# Altium footprint library Samtec.PcbLib: 5 footprints
Each footprint in its own frame and in the unit in brackets; x right, y up, seen from the top. Pads: shape width x height; smd on the part's side, far side on the other; paste and mask are expansions set on the pad; w line width, h text height; cw(c..) or ccw(c..) is an arc to the next point about the centre after c.
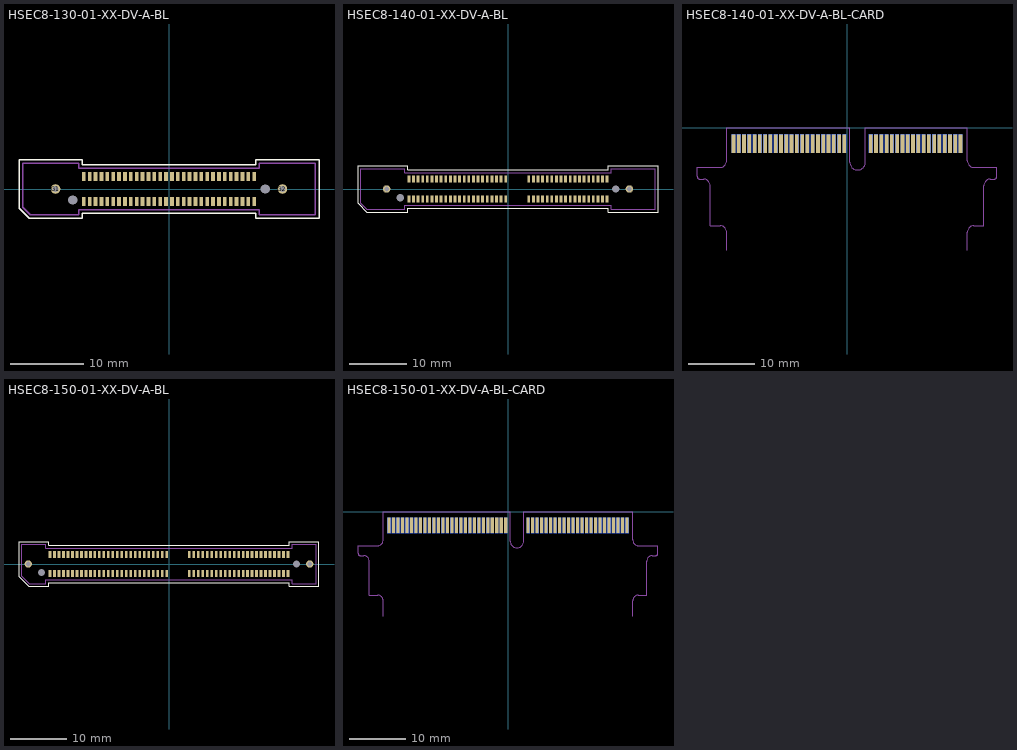
[diagram p0: the footprints below, top view; thin cyan lines are the x and y axes]

## HSEC8-130-01-XX-DV-A-BL [mm]
pads (64):
  rect 0.5x1.2 smd mask+0.05: 1(-11.6,-1.7) 2(-11.6,1.7) 3(-10.8,-1.7) 4(-10.8,1.7) 5(-10,-1.7) 6(-10,1.7) 7(-9.2,-1.7) 8(-9.2,1.7) 9(-8.4,-1.7) 10(-8.4,1.7) 11(-7.6,-1.7) 12(-7.6,1.7) 13(-6.8,-1.7) 14(-6.8,1.7) 15(-6,-1.7) 16(-6,1.7) 17(-5.2,-1.7) 18(-5.2,1.7) 19(-4.4,-1.7) 20(-4.4,1.7) 21(-3.6,-1.7) 22(-3.6,1.7) 23(-2.8,-1.7) 24(-2.8,1.7) 25(-2,-1.7) 26(-2,1.7) 27(-1.2,-1.7) 28(-1.2,1.7) 29(-0.4,-1.7) 30(-0.4,1.7) 31(0.4,-1.7) 32(0.4,1.7) 33(1.2,-1.7) 34(1.2,1.7) 35(2,-1.7) 36(2,1.7) 37(2.8,-1.7) 38(2.8,1.7) 39(3.6,-1.7) 40(3.6,1.7) 41(4.4,-1.7) 42(4.4,1.7) 43(5.2,-1.7) 44(5.2,1.7) 45(6,-1.7) 46(6,1.7) 47(6.8,-1.7) 48(6.8,1.7) 49(7.6,-1.7) 50(7.6,1.7) 51(8.4,-1.7) 52(8.4,1.7) 53(9.2,-1.7) 54(9.2,1.7) 55(10,-1.7) 56(10,1.7) 57(10.8,-1.7) 58(10.8,1.7) 59(11.6,-1.7) 60(11.6,1.7)
  round 1.3 hole 0.84 mask+0.075: G1(-15.45,0) G2(15.45,0)
  round 0 hole 1.27 unplated: MH1(-13.1,-1.5) MH2(13.1,0)
Top Overlay:
  lines w0.178: -20.425,-2.631 -19.056,-4 -11.8,-4 -11.8,-3.3 11.8,-3.3 11.8,-4 20.425,-4 20.425,4 11.8,4 11.8,3.3 -11.8,3.3 -11.8,4 -20.425,4 -20.425,-2.631
Top Paste:
  region: -14.169,0 -14.213,0.332 -14.341,0.64 -14.544,0.906 -14.81,1.109 -15.118,1.237 -15.45,1.281 -15.782,1.237 -16.09,1.109 -16.356,0.906 -16.559,0.64 -16.687,0.332 -16.731,0 -16.687,-0.332 -16.559,-0.64 -16.356,-0.906 -16.09,-1.109 -15.782,-1.237 -15.45,-1.281 -15.118,-1.237 -14.81,-1.109 -14.544,-0.906 -14.341,-0.64 -14.213,-0.332
  region: 16.731,0 16.687,0.332 16.559,0.64 16.356,0.906 16.09,1.109 15.782,1.237 15.45,1.281 15.118,1.237 14.81,1.109 14.544,0.906 14.341,0.64 14.213,0.332 14.169,0 14.213,-0.332 14.341,-0.64 14.544,-0.906 14.81,-1.109 15.118,-1.237 15.45,-1.281 15.782,-1.237 16.09,-1.109 16.356,-0.906 16.559,-0.64 16.687,-0.332
Mechanical 13:
  lines w0.178: -19.925,-2.5 -19.925,3.5 -12.3,3.5 -12.3,2.8 12.3,2.8 12.3,3.5 19.925,3.5 19.925,-3.5 12.3,-3.5 12.3,-2.8 -12.3,-2.8 -12.3,-3.5 -18.925,-3.5 -19.925,-2.5
3D body "HSEC8-130-01-L-DV-A-BL.stp": height 12.2, standoff -1.5, extent -19.925,-3.5 19.925,3.5

## HSEC8-140-01-XX-DV-A-BL [mm]
pads (84):
  rect 0.5x1.2 smd mask+0.05: 1(-17.2,-1.7) 2(-17.2,1.7) 3(-16.4,-1.7) 4(-16.4,1.7) 5(-15.6,-1.7) 6(-15.6,1.7) 7(-14.8,-1.7) 8(-14.8,1.7) 9(-14,-1.7) 10(-14,1.7) 11(-13.2,-1.7) 12(-13.2,1.7) 13(-12.4,-1.7) 14(-12.4,1.7) 15(-11.6,-1.7) 16(-11.6,1.7) 17(-10.8,-1.7) 18(-10.8,1.7) 19(-10,-1.7) 20(-10,1.7) 21(-9.2,-1.7) 22(-9.2,1.7) 23(-8.4,-1.7) 24(-8.4,1.7) 25(-7.6,-1.7) 26(-7.6,1.7) 27(-6.8,-1.7) 28(-6.8,1.7) 29(-6,-1.7) 30(-6,1.7) 31(-5.2,-1.7) 32(-5.2,1.7) 33(-4.4,-1.7) 34(-4.4,1.7) 35(-3.6,-1.7) 36(-3.6,1.7) 37(-2.8,-1.7) 38(-2.8,1.7) 39(-2,-1.7) 40(-2,1.7) 41(-1.2,-1.7) 42(-1.2,1.7) 43(-0.4,-1.7) 44(-0.4,1.7) 45(3.6,-1.7) 46(3.6,1.7) 47(4.4,-1.7) 48(4.4,1.7) 49(5.2,-1.7) 50(5.2,1.7) 51(6,-1.7) 52(6,1.7) 53(6.8,-1.7) 54(6.8,1.7) 55(7.6,-1.7) 56(7.6,1.7) 57(8.4,-1.7) 58(8.4,1.7) 59(9.2,-1.7) 60(9.2,1.7) 61(10,-1.7) 62(10,1.7) 63(10.8,-1.7) 64(10.8,1.7) 65(11.6,-1.7) 66(11.6,1.7) 67(12.4,-1.7) 68(12.4,1.7) 69(13.2,-1.7) 70(13.2,1.7) 71(14,-1.7) 72(14,1.7) 73(14.8,-1.7) 74(14.8,1.7) 75(15.6,-1.7) 76(15.6,1.7) 77(16.4,-1.7) 78(16.4,1.7) 79(17.2,-1.7) 80(17.2,1.7)
  round 1.3 hole 0.84 mask+0.075: G1(-21.05,0) G2(21.05,0)
  round 0 hole 1.27 unplated: MH1(-18.7,-1.5) MH2(18.7,0)
Top Overlay:
  lines w0.178: -26.025,-2.5 -24.525,-4 -17.4,-4 -17.4,-3.3 17.4,-3.3 17.4,-4 26.025,-4 26.025,4 17.4,4 17.4,3.3 -17.4,3.3 -17.4,4 -26.025,4 -26.025,-2.5
Mechanical 13:
  lines w0.178: -25.525,-2.5 -25.525,3.5 -17.9,3.5 -17.9,2.8 17.9,2.8 17.9,3.5 25.525,3.5 25.525,-3.5 17.9,-3.5 17.9,-2.8 -17.9,-2.8 -17.9,-3.5 -24.525,-3.5 -25.525,-2.5
3D body "HSEC8-140-01-L-DV-A-BL.stp": height 12.2, standoff -1.5, extent -25.525,-3.5 25.525,3.5

## HSEC8-140-01-XX-DV-A-BL-CARD [mm]
pads (80):
  rect 0.55x2.8 smd far side mask+0.05: 1(-17.2,-2.4) 3(-16.4,-2.4) 5(-15.6,-2.4) 7(-14.8,-2.4) 9(-14,-2.4) 11(-13.2,-2.4) 13(-12.4,-2.4) 15(-11.6,-2.4) 17(-10.8,-2.4) 19(-10,-2.4) 21(-9.2,-2.4) 23(-8.4,-2.4) 25(-7.6,-2.4) 27(-6.8,-2.4) 29(-6,-2.4) 31(-5.2,-2.4) 33(-4.4,-2.4) 35(-3.6,-2.4) 37(-2.8,-2.4) 39(-2,-2.4) 41(-1.2,-2.4) 43(-0.4,-2.4) 45(3.6,-2.4) 47(4.4,-2.4) 49(5.2,-2.4) 51(6,-2.4) 53(6.8,-2.4) 55(7.6,-2.4) 57(8.4,-2.4) 59(9.2,-2.4) 61(10,-2.4) 63(10.8,-2.4) 65(11.6,-2.4) 67(12.4,-2.4) 69(13.2,-2.4) 71(14,-2.4) 73(14.8,-2.4) 75(15.6,-2.4) 77(16.4,-2.4) 79(17.2,-2.4)
  rect 0.55x2.8 smd mask+0.05: 2(-17.2,-2.4) 4(-16.4,-2.4) 6(-15.6,-2.4) 8(-14.8,-2.4) 10(-14,-2.4) 12(-13.2,-2.4) 14(-12.4,-2.4) 16(-11.6,-2.4) 18(-10.8,-2.4) 20(-10,-2.4) 22(-9.2,-2.4) 24(-8.4,-2.4) 26(-7.6,-2.4) 28(-6.8,-2.4) 30(-6,-2.4) 32(-5.2,-2.4) 34(-4.4,-2.4) 36(-3.6,-2.4) 38(-2.8,-2.4) 40(-2,-2.4) 42(-1.2,-2.4) 44(-0.4,-2.4) 46(3.6,-2.4) 48(4.4,-2.4) 50(5.2,-2.4) 52(6,-2.4) 54(6.8,-2.4) 56(7.6,-2.4) 58(8.4,-2.4) 60(9.2,-2.4) 62(10,-2.4) 64(10.8,-2.4) 66(11.6,-2.4) 68(12.4,-2.4) 70(13.2,-2.4) 72(14,-2.4) 74(14.8,-2.4) 76(15.6,-2.4) 78(16.4,-2.4) 80(17.2,-2.4)
Mechanical 16:
  lines w0.025: -18.225,-18.566 -18.225,-15.84 ccw(c-19.225,-15.84) -19.225,-14.84 -20.725,-14.84 -20.725,-8.78 ccw(c-21.725,-8.78) -21.725,-7.78 -22.325,-7.78 cw(c-22.325,-7.38) -22.725,-7.38 -22.725,-6 -19.225,-6 ccw(c-19.225,-5) -18.225,-5 -18.225,-0.779 -18.225,0 0.4,0 0.4,-0.779 0.4,-5.2 ccw(c1.6,-5.2) 2.8,-5.2 2.8,-0.779 2.8,0 18.225,0 18.225,-0.779 18.225,-5 ccw(c19.225,-5) 19.225,-6 22.725,-6 22.725,-7.38 cw(c22.325,-7.38) 22.325,-7.78 21.725,-7.78 ccw(c21.725,-8.78) 20.725,-8.78 20.725,-14.84 19.225,-14.84 ccw(c19.225,-15.84) 18.225,-15.84 18.225,-18.566

## HSEC8-150-01-XX-DV-A-BL [mm]
pads (104):
  rect 0.5x1.2 smd mask+0.05: 1(-21.2,-1.7) 2(-21.2,1.7) 3(-20.4,-1.7) 4(-20.4,1.7) 5(-19.6,-1.7) 6(-19.6,1.7) 7(-18.8,-1.7) 8(-18.8,1.7) 9(-18,-1.7) 10(-18,1.7) 11(-17.2,-1.7) 12(-17.2,1.7) 13(-16.4,-1.7) 14(-16.4,1.7) 15(-15.6,-1.7) 16(-15.6,1.7) 17(-14.8,-1.7) 18(-14.8,1.7) 19(-14,-1.7) 20(-14,1.7) 21(-13.2,-1.7) 22(-13.2,1.7) 23(-12.4,-1.7) 24(-12.4,1.7) 25(-11.6,-1.7) 26(-11.6,1.7) 27(-10.8,-1.7) 28(-10.8,1.7) 29(-10,-1.7) 30(-10,1.7) 31(-9.2,-1.7) 32(-9.2,1.7) 33(-8.4,-1.7) 34(-8.4,1.7) 35(-7.6,-1.7) 36(-7.6,1.7) 37(-6.8,-1.7) 38(-6.8,1.7) 39(-6,-1.7) 40(-6,1.7) 41(-5.2,-1.7) 42(-5.2,1.7) 43(-4.4,-1.7) 44(-4.4,1.7) 45(-3.6,-1.7) 46(-3.6,1.7) 47(-2.8,-1.7) 48(-2.8,1.7) 49(-2,-1.7) 50(-2,1.7) 51(-1.2,-1.7) 52(-1.2,1.7) 53(-0.4,-1.7) 54(-0.4,1.7) 55(3.6,-1.7) 56(3.6,1.7) 57(4.4,-1.7) 58(4.4,1.7) 59(5.2,-1.7) 60(5.2,1.7) 61(6,-1.7) 62(6,1.7) 63(6.8,-1.7) 64(6.8,1.7) 65(7.6,-1.7) 66(7.6,1.7) 67(8.4,-1.7) 68(8.4,1.7) 69(9.2,-1.7) 70(9.2,1.7) 71(10,-1.7) 72(10,1.7) 73(10.8,-1.7) 74(10.8,1.7) 75(11.6,-1.7) 76(11.6,1.7) 77(12.4,-1.7) 78(12.4,1.7) 79(13.2,-1.7) 80(13.2,1.7) 81(14,-1.7) 82(14,1.7) 83(14.8,-1.7) 84(14.8,1.7) 85(15.6,-1.7) 86(15.6,1.7) 87(16.4,-1.7) 88(16.4,1.7) 89(17.2,-1.7) 90(17.2,1.7) 91(18,-1.7) 92(18,1.7) 93(18.8,-1.7) 94(18.8,1.7) 95(19.6,-1.7) 96(19.6,1.7) 97(20.4,-1.7) 98(20.4,1.7) 99(21.2,-1.7) 100(21.2,1.7)
  round 1.3 hole 0.84 mask+0.075: G1(-25.05,0) G2(25.05,0)
  round 0 hole 1.27 unplated: MH1(-22.7,-1.5) MH2(22.7,0)
Top Overlay:
  lines w0.178: -26.7,-2.3 -26.7,4 -21.4,4 -21.4,3.3 21.4,3.3 21.4,4 26.7,4 26.7,-4 21.4,-4 21.4,-3.3 -21.4,-3.3 -21.4,-4 -25,-4 -26.7,-2.3
Mechanical 1:
  lines w0.178: -26.2,-2.2 -24.9,-3.5 -21.9,-3.5 -21.9,-2.8 21.9,-2.8 21.9,-3.5 26.2,-3.5 26.2,3.5 21.9,3.5 21.9,2.8 -21.9,2.8 -21.9,3.5 -26.2,3.5 -26.2,-2.2
  text "J1" at -0.497,-0.508 h0.76
3D body "HSEC8-150-01-L-DV-A-BL.stp": height 12.2, standoff -1.5, extent -29.525,-3.5 29.525,3.5

## HSEC8-150-01-XX-DV-A-BL-CARD [mm]
pads (100):
  rect 0.55x2.8 smd far side paste-0.508 mask+0.05: 1(-21.2,-2.4) 3(-20.4,-2.4) 5(-19.6,-2.4) 7(-18.8,-2.4) 9(-18,-2.4) 11(-17.2,-2.4) 13(-16.4,-2.4) 15(-15.6,-2.4) 17(-14.8,-2.4) 19(-14,-2.4) 21(-13.2,-2.4) 23(-12.4,-2.4) 25(-11.6,-2.4) 27(-10.8,-2.4) 29(-10,-2.4) 31(-9.2,-2.4) 33(-8.4,-2.4) 35(-7.6,-2.4) 37(-6.8,-2.4) 39(-6,-2.4) 41(-5.2,-2.4) 43(-4.4,-2.4) 45(-3.6,-2.4) 47(-2.8,-2.4) 49(-2,-2.4) 51(-1.2,-2.4) 53(-0.4,-2.4) 55(3.6,-2.4) 57(4.4,-2.4) 59(5.2,-2.4) 61(6,-2.4) 63(6.8,-2.4) 65(7.6,-2.4) 67(8.4,-2.4) 69(9.2,-2.4) 71(10,-2.4) 73(10.8,-2.4) 75(11.6,-2.4) 77(12.4,-2.4) 79(13.2,-2.4) 81(14,-2.4) 83(14.8,-2.4) 85(15.6,-2.4) 87(16.4,-2.4) 89(17.2,-2.4) 91(18,-2.4) 93(18.8,-2.4) 95(19.6,-2.4) 97(20.4,-2.4) 99(21.2,-2.4)
  rect 0.55x2.8 smd paste-0.508 mask+0.102: 2(-21.2,-2.4)
  rect 0.55x2.8 smd paste-0.508 mask+0.05: 4(-20.4,-2.4) 6(-19.6,-2.4) 8(-18.8,-2.4) 10(-18,-2.4) 12(-17.2,-2.4) 14(-16.4,-2.4) 16(-15.6,-2.4) 18(-14.8,-2.4) 20(-14,-2.4) 22(-13.2,-2.4) 24(-12.4,-2.4) 26(-11.6,-2.4) 28(-10.8,-2.4) 30(-10,-2.4) 32(-9.2,-2.4) 34(-8.4,-2.4) 36(-7.6,-2.4) 38(-6.8,-2.4) 40(-6,-2.4) 42(-5.2,-2.4) 44(-4.4,-2.4) 46(-3.6,-2.4) 48(-2.8,-2.4) 50(-2,-2.4) 52(-1.2,-2.4) 54(-0.4,-2.4) 56(3.6,-2.4) 58(4.4,-2.4) 60(5.2,-2.4) 62(6,-2.4) 64(6.8,-2.4) 66(7.6,-2.4) 68(8.4,-2.4) 70(9.2,-2.4) 72(10,-2.4) 74(10.8,-2.4) 76(11.6,-2.4) 78(12.4,-2.4) 80(13.2,-2.4) 82(14,-2.4) 84(14.8,-2.4) 86(15.6,-2.4) 88(16.4,-2.4) 90(17.2,-2.4) 92(18,-2.4) 94(18.8,-2.4) 96(19.6,-2.4) 98(20.4,-2.4) 100(21.2,-2.4)
Mechanical 16:
  lines w0.025: -22.225,-18.566 -22.225,-15.84 ccw(c-23.225,-15.84) -23.225,-14.84 -24.725,-14.84 -24.725,-8.78 ccw(c-25.725,-8.78) -25.725,-7.78 -26.325,-7.78 cw(c-26.325,-7.38) -26.725,-7.38 -26.725,-6 -23.225,-6 ccw(c-23.225,-5) -22.225,-5 -22.225,-0.779 -22.225,0 0.4,0 0.4,-0.779 0.4,-5.2 ccw(c1.6,-5.2) 2.8,-5.2 2.8,-0.779 2.8,0 22.225,0 22.225,-0.779 22.225,-5 ccw(c23.225,-5) 23.225,-6 26.725,-6 26.725,-7.38 cw(c26.325,-7.38) 26.325,-7.78 25.725,-7.78 ccw(c25.725,-8.78) 24.725,-8.78 24.725,-14.84 23.225,-14.84 ccw(c23.225,-15.84) 22.225,-15.84 22.225,-18.566